# Altium schematic symbol library Linear.SchLib: 6 symbols
Pins are listed as number, name and electrical type; pins without a type are passive.

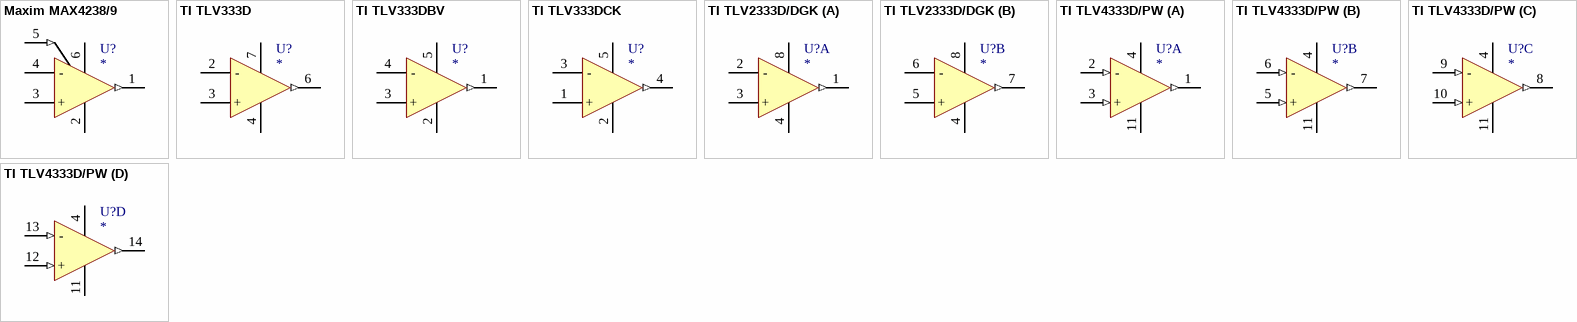
[diagram p0: symbols Maxim MAX4238/9 to TI TLV4333D/PW]

## Maxim MAX4238/9
designator U?
Single Operational Amplifier - MAX4238/9 (SOT-23-6); Part Number: *
pins: 1 (out), 2 (power), 3 +, 4 -, 5 ~{SHDN} (in), 6 (power)

## TI TLV333D
designator U?
Single Operational Amplifier - TLV333D (SOIC-8); Part Number: *
pins: 2 -, 3 +, 4 (power), 6 (out), 7 (power)

## TI TLV333DBV
designator U?
Single Operational Amplifier - TLV333DBV (SOT-23-5); Part Number: *
pins: 1 (out), 2 (power), 3 +, 4 -, 5 (power)

## TI TLV333DCK
designator U?
Single Operational Amplifier - TLV333DBV (SC-70-5); Part Number: *
pins: 1 +, 2 (power), 3 -, 4 (out), 5 (power)

## TI TLV2333D/DGK
designator U?
Dual Operational Amplifier - TLV2333D (SOIC-8)/TLV2333DGK (VSSOP-8); Part Number: *
part A pins: 1 (out), 2 -, 3 +, 4 (power), 8 (power)
part B pins: 4 (power), 5 +, 6 -, 7 (out), 8 (power)

## TI TLV4333D/PW
designator U?
Quad Operational Amplifier - TLV4333D (SOIC-14)/TLV4333PW (TSSOP-14); Part Number: *
part A pins: 1 (out), 2 - (in), 3 + (in), 4 (power), 11 (power)
part B pins: 4 (power), 5 + (in), 6 - (in), 7 (out), 11 (power)
part C pins: 4 (power), 8 (out), 9 - (in), 10 + (in), 11 (power)
part D pins: 4 (power), 11 (power), 12 + (in), 13 - (in), 14 (out)